# Altium integrated library GRM31C5C2A104JA01L.IntLib: 1 symbol
Pins are listed as number, name and electrical type; pins without a type are passive.

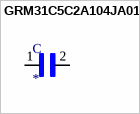
[diagram p0: symbol GRM31C5C2A104JA01L]

## GRM31C5C2A104JA01L
designator C
SMD Capacitor C0G(EIA) with Capacitance: 0.10uF Tol. 5%. Rated Voltage: 100Vdc; MP: GRM31C5C2A104JA01L; MF: Murata; DigiKey-Purchase-URL: https://snapeda.com/shop?store=DigiKey&id=4379036; Package: 3216 Murata; Price: None; Availability: Unavailable; Mouser-Purchase-URL: https://snapeda.com/shop?store=Mouser&id=4379036; Arrow_Electronics-Purchase-URL: https://snapeda.com/shop?store=Arrow+Electronics&id=4379036; SnapEDA_Link: https://www.snapeda.com/parts/GRM31C5C2A104JA01L/Murata/view-part/4379036/?ref=snap; Value: *
footprint CAPC3216X180N
pins: 1, 2